# Altium footprint library RPSLib_ADC_DAC.PcbLib: 6 footprints
Each footprint in its own frame and in the unit in brackets; x right, y up, seen from the top. Pads: shape width x height; smd on the part's side, far side on the other; paste and mask are expansions set on the pad; w line width, h text height; cw(c..) or ccw(c..) is an arc to the next point about the centre after c.
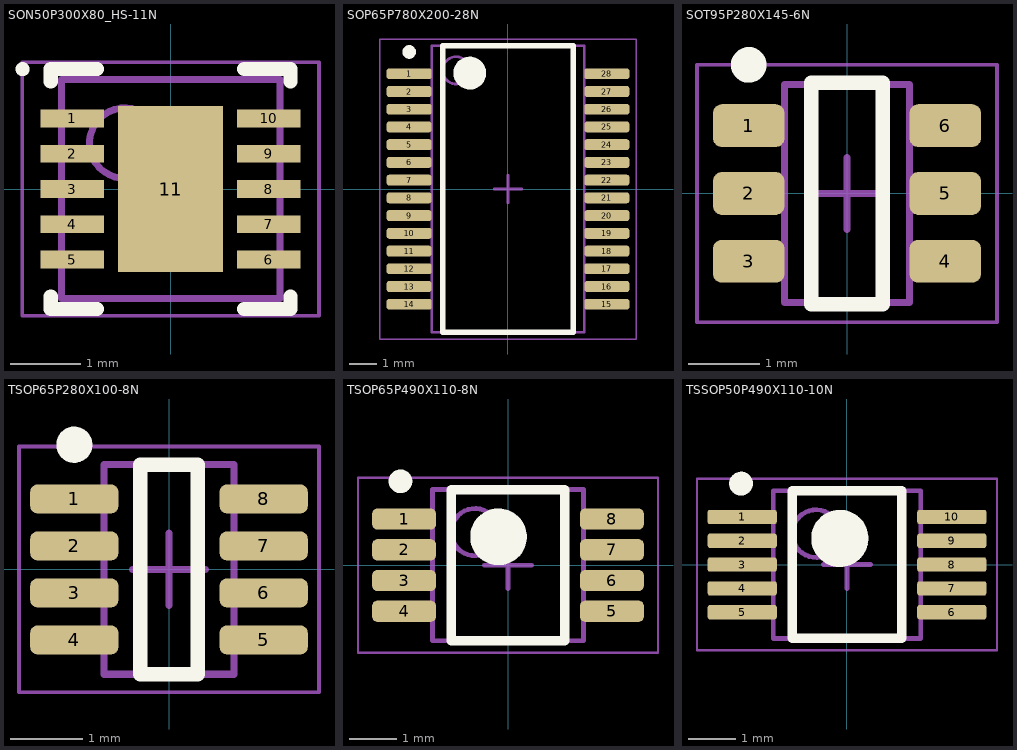
[diagram p0: the footprints below, top view; thin cyan lines are the x and y axes]

## SON50P300X80_HS-11N [mm] "SON, 10-Leads, Body 3,00x3,00mm, Pitch 0,50mm, Thermal Pad 2,36x1,49mm, IPC Medium Density"
height 0.8
pads (11):
  rect 0.9x0.25 smd mask+0.07: 1(-1.395,1) 2(-1.395,0.5) 3(-1.395,0) 4(-1.395,-0.5) 5(-1.395,-1) 6(1.395,-1) 7(1.395,-0.5) 8(1.395,0) 9(1.395,0.5) 10(1.395,1)
  rect 1.49x2.36 smd mask+0.07: 11(0,0)
Top Overlay:
  circle w0.1: c-2.1,1.7 r0.05
  lines w0.2: -1.7,-1.525 -1.7,-1.7 -1.045,-1.7 ; -1.7,1.525 -1.7,1.7 -1.045,1.7 ; 1.045,-1.7 1.7,-1.7 1.7,-1.525 ; 1.045,1.7 1.7,1.7 1.7,1.525
Mechanical 13:
  circle w0.1: c-0.65,0.65 r0.5
  lines w0.1: -1.55,-1.55 -1.55,1.55 1.55,1.55 1.55,-1.55 -1.55,-1.55
Mechanical 15:
  lines w0.05: -2.105,-1.8 -2.105,1.8 2.105,1.8 2.105,-1.8 -2.105,-1.8
  lines w0.1: -0.5,0 0.5,0 ; 0,-0.5 0,0.5
3D body "SON50P300X80_HS-11N.step": height 0.8, standoff 0, extent -1.6,-1.55 1.6,1.55

## SOP65P780X200-28N [mm] "SOP, 28-Leads, Body 10,20x5,30mm, Pitch 0,65mm, IPC Medium Density"
height 2
pads (28):
  rrect50% 1.65x0.4 smd mask+0.07: 1(-3.625,4.225) 2(-3.625,3.575) 3(-3.625,2.925) 4(-3.625,2.275) 5(-3.625,1.625) 6(-3.625,0.975) 7(-3.625,0.325) 8(-3.625,-0.325) 9(-3.625,-0.975) 10(-3.625,-1.625) 11(-3.625,-2.275) 12(-3.625,-2.925) 13(-3.625,-3.575) 14(-3.625,-4.225) 15(3.625,-4.225) 16(3.625,-3.575) 17(3.625,-2.925) 18(3.625,-2.275) 19(3.625,-1.625) 20(3.625,-0.975) 21(3.625,-0.325) 22(3.625,0.325) 23(3.625,0.975) 24(3.625,1.625) 25(3.625,2.275) 26(3.625,2.925) 27(3.625,3.575) 28(3.625,4.225)
Top Overlay:
  circle w0.25: c-3.625,5.025 r0.125
  circle w0.6: c-1.4,4.25 r0.3
  lines w0.2: -2.4,-5.25 -2.4,5.25 2.4,5.25 2.4,-5.25 -2.4,-5.25
Mechanical 13:
  circle w0.1: c-1.9,4.35 r0.5
  lines w0.1: -2.8,-5.25 -2.8,5.25 2.8,5.25 2.8,-5.25 -2.8,-5.25
Mechanical 15:
  lines w0.05: -4.7,-5.5 -4.7,5.5 4.7,5.5 4.7,-5.5 -4.7,-5.5
  lines w0.1: -0.5,0 0.5,0 ; 0,-0.5 0,0.5
3D body "SOP65P780X200-28N.step": height 2, standoff 0, extent -3.9,-5.25 3.9,5.25

## SOT95P280X145-6N [mm] "SOT23, 6-Leads, Body 2.92x2.80mm, Pitch 0.95mm, IPC Medium Density"
height 1.45
pads (6):
  rrect40% 1x0.6 smd mask+0.07: 1(-1.375,0.95) 2(-1.375,0) 3(-1.375,-0.95) 4(1.375,-0.95) 5(1.375,0) 6(1.375,0.95)
Top Overlay:
  circle w0.25: c-1.375,1.8 r0.125
  lines w0.2: -0.5,-1.55 -0.5,1.55 0.5,1.55 0.5,-1.55 -0.5,-1.55
Mechanical 13:
  lines w0.1: -0.875,-1.525 0.875,-1.525 0.875,1.525 -0.875,1.525 -0.875,-1.525
Mechanical 15:
  lines w0.05: -2.1,-1.8 2.1,-1.8 2.1,1.8 -2.1,1.8 -2.1,-1.8
  lines w0.1: -0.5,0 0.5,0 ; 0,-0.5 0,0.5
3D body "SOT95P280X145-6N_.step": height 1.45, standoff 0, extent -1.6,-1.525 1.6,1.525

## TSOP65P280X100-8N [mm] "TSOP, 8-Leads, Body 2,90x1,63mm, Pitch 0,65mm, IPC Medium Density"
height 1
pads (8):
  rrect50% 1.22x0.4 smd mask+0.07: 1(-1.31,0.975) 2(-1.31,0.325) 3(-1.31,-0.325) 4(-1.31,-0.975) 5(1.31,-0.975) 6(1.31,-0.325) 7(1.31,0.325) 8(1.31,0.975)
Top Overlay:
  circle w0.25: c-1.31,1.725 r0.125
  lines w0.2: -0.4,-1.45 0.4,-1.45 0.4,1.45 -0.4,1.45 -0.4,-1.45
Mechanical 13:
  lines w0.1: -0.9,-1.45 0.9,-1.45 0.9,1.45 -0.9,1.45 -0.9,-1.45
Mechanical 15:
  lines w0.05: -2.075,-1.7 2.075,-1.7 2.075,1.7 -2.075,1.7 -2.075,-1.7
  lines w0.1: -0.5,0 0.5,0 ; 0,-0.5 0,0.5
3D body "TSOP65P280X100-8N.step": height 1, standoff 0, extent -1.4,-1.45 1.4,1.45

## TSOP65P490X110-8N [mm] "TSOP, 8-Leads, Body 3,00x3,00mm, Pitch 0,65mm, IPC Medium Density"
height 1.1
pads (8):
  rrect50% 1.35x0.45 smd mask+0.07: 1(-2.2,0.975) 2(-2.2,0.325) 3(-2.2,-0.325) 4(-2.2,-0.975) 5(2.2,-0.975) 6(2.2,-0.325) 7(2.2,0.325) 8(2.2,0.975)
Top Overlay:
  circle w0.25: c-2.275,1.775 r0.125
  circle w0.6: c-0.2,0.6 r0.3
  lines w0.2: -1.2,-1.6 -1.2,1.6 1.2,1.6 1.2,-1.6 -1.2,-1.6
Mechanical 13:
  circle w0.1: c-0.7,0.7 r0.5
  lines w0.1: -1.6,-1.6 -1.6,1.6 1.6,1.6 1.6,-1.6 -1.6,-1.6
Mechanical 15:
  lines w0.05: -3.175,-1.85 -3.175,1.85 3.175,1.85 3.175,-1.85 -3.175,-1.85
  lines w0.1: -0.5,0 0.5,0 ; 0,-0.5 0,0.5
3D body "TSOP65P490X110-8N.step": height 1.1, standoff 0, extent -2.45,-1.6 2.45,1.6

## TSSOP50P490X110-10N [mm] "TSSOP, 10-Leads, Body 3,00x3,00mm, Pitch 0,50mm, IPC Medium Density"
height 1.1
pads (10):
  rrect30% 1.45x0.3 smd mask+0.07: 1(-2.2,1) 2(-2.2,0.5) 3(-2.2,0) 4(-2.2,-0.5) 5(-2.2,-1) 6(2.2,-1) 7(2.2,-0.5) 8(2.2,0) 9(2.2,0.5) 10(2.2,1)
Top Overlay:
  circle w0.6: c-0.15,0.55 r0.3
  circle w0.25: c-2.225,1.7 r0.125
  lines w0.2: -1.15,-1.55 1.15,-1.55 1.15,1.55 -1.15,1.55 -1.15,-1.55
Mechanical 13:
  circle w0.1: c-0.65,0.65 r0.5
  lines w0.1: -1.55,-1.55 1.55,-1.55 1.55,1.55 -1.55,1.55 -1.55,-1.55
Mechanical 15:
  lines w0.05: -3.15,-1.8 3.15,-1.8 3.15,1.8 -3.15,1.8 -3.15,-1.8
  lines w0.1: -0.5,0 0.5,0 ; 0,-0.5 0,0.5
3D body "TSSOP50P490X110-10N.step": height 1.1, standoff 0, extent -2.45,-1.55 2.45,1.55